# EAGLE library part 581-01-48-009 (library FSAE Electric)
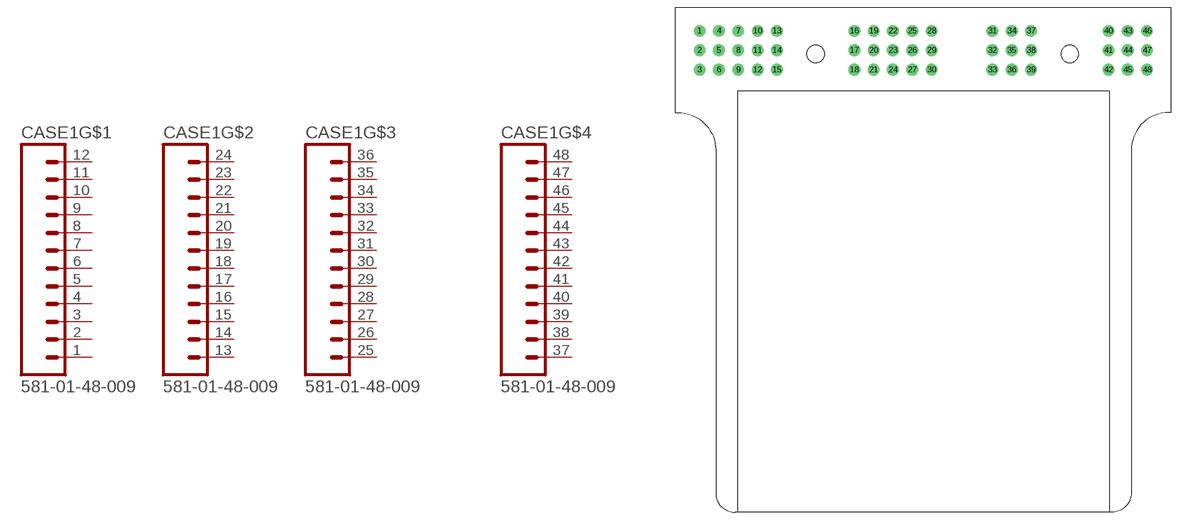
[diagram p21: symbol with the pads of 581-01-48-009; footprint 581-01-48-009]

Designator prefix CASE1; gates G$1=M12 G$2=M12 G$3=M12 G$4=M12

## 581-01-48-009  [581-01-48-009]
1  G$1:1  pas
2  G$1:2  pas
3  G$1:3  pas
4  G$1:4  pas
5  G$1:5  pas
6  G$1:6  pas
7  G$1:7  pas
8  G$1:8  pas
9  G$1:9  pas
10  G$1:10  pas
11  G$1:11  pas
12  G$1:12  pas
13  G$2:1  pas
14  G$2:2  pas
15  G$2:3  pas
16  G$2:4  pas
17  G$2:5  pas
18  G$2:6  pas
19  G$2:7  pas
20  G$2:8  pas
21  G$2:9  pas
22  G$2:10  pas
23  G$2:11  pas
24  G$2:12  pas
25  G$3:1  pas
26  G$3:2  pas
27  G$3:3  pas
28  G$3:4  pas
29  G$3:5  pas
30  G$3:6  pas
31  G$3:7  pas
32  G$3:8  pas
33  G$3:9  pas
34  G$3:10  pas
35  G$3:11  pas
36  G$3:12  pas
37  G$4:1  pas
38  G$4:2  pas
39  G$4:3  pas
40  G$4:4  pas
41  G$4:5  pas
42  G$4:6  pas
43  G$4:7  pas
44  G$4:8  pas
45  G$4:9  pas
46  G$4:10  pas
47  G$4:11  pas
48  G$4:12  pas

## Footprint 581-01-48-009 (pad centres in mm)
drill 1.6: 1 -45.872,4.699; 2 -45.872,0.711; 3 -45.872,-3.277; 4 -41.91,4.699; 5 -41.91,0.711; 6 -41.91,-3.277; 7 -37.948,4.699; 8 -37.948,0.711; 9 -37.948,-3.277; 10 -33.985,4.699; 11 -33.985,0.711; 12 -33.985,-3.277; 13 -30.023,4.699; 14 -30.023,0.711; 15 -30.023,-3.277; 16 -14.173,4.699; 17 -14.173,0.711; 18 -14.173,-3.277; 19 -10.211,4.699; 20 -10.211,0.711; 21 -10.211,-3.277; 22 -6.248,4.699; 23 -6.248,0.711; 24 -6.248,-3.277; 25 -2.286,4.699; 26 -2.286,0.711; 27 -2.286,-3.277; 28 1.676,4.699; 29 1.676,0.711; 30 1.676,-3.277; 31 14.122,4.699; 32 14.122,0.711; 33 14.122,-3.277; 34 18.085,4.699; 35 18.085,0.711; 36 18.085,-3.277; 37 22.047,4.699; 38 22.047,0.711; 39 22.047,-3.277; 40 37.897,4.699; 41 37.897,0.711; 42 37.897,-3.277; 43 41.859,4.699; 44 41.859,0.711; 45 41.859,-3.277; 46 45.822,4.699; 47 45.822,0.711; 48 45.822,-3.277
hole 3.556 at -22.098,0
hole 3.556 at 29.972,0